# EAGLE library part RCLAMP0502N (library sjg-usb)
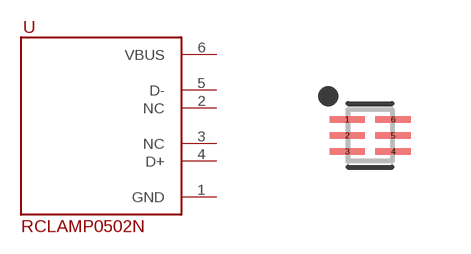
[diagram p0: symbol with the pads of RESCAF40P120X100X65-6; footprint RESCAF40P120X100X65-6]

Designator prefix -

## RCLAMP0502N  [RESCAF40P120X100X65-6]
1  GND
2  NC
3  NC
4  D+
5  D-
6  VBUS

## Footprint RESCAF40P120X100X65-6 (pad centres in mm)
6-CHIPARRAY 2-SIDE FLAT, 0.4 mm pitch, 1.2 X 1 X 0.65 mm body 6-pin CHIPARRAY 2-SIDE FLAT package with 0.4 mm pitch with body size 1.2 X 1 X 0.65 mm
smd 0.885 x 0.16: 1 -0.572,0.4; 2 -0.572,0; 3 -0.572,-0.4; 4 0.572,-0.4; 5 0.572,0; 6 0.572,0.4